# EAGLE library part PCA9685 (library PCA9685)
I2C Bus LED Controller RS No: 727-5649 MRF No: PCA9685PW,112
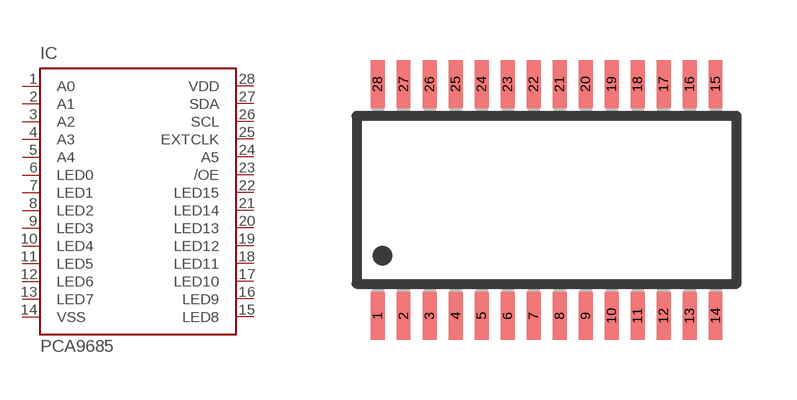
[diagram p0: symbol with the pads of PCA9685; footprint PCA9685]

Designator prefix IC

## PCA9685  [PCA9685]
1  A0  out
2  A1  out
3  A2  out
4  A3  out
5  A4  out
6  LED0  out
7  LED1  out
8  LED2  in
9  LED3  in
10  LED4  out
11  LED5  out
12  LED6  pas
13  LED7  pas
14  VSS  pas
15  LED8  out
16  LED9  out
17  LED10  out
18  LED11  out
19  LED12  out
20  LED13  out
21  LED14  out
22  LED15  in
23  /OE  in
24  A5  out
25  EXTCLK  out
26  SCL  pas
27  SDA  pas
28  VDD  pas

## Footprint PCA9685 (pad centres in mm)
smd 0.35 x 1.2: 1 -4.225,-2.9; 2 -3.575,-2.9; 3 -2.925,-2.9; 4 -2.275,-2.9; 5 -1.625,-2.9; 6 -0.975,-2.9; 7 -0.325,-2.9; 8 0.325,-2.9; 9 0.975,-2.9; 10 1.625,-2.9; 11 2.275,-2.9; 12 2.925,-2.9; 13 3.575,-2.9; 14 4.225,-2.9; 15 4.225,2.9; 16 3.575,2.9; 17 2.925,2.9; 18 2.275,2.9; 19 1.625,2.9; 20 0.975,2.9; 21 0.325,2.9; 22 -0.325,2.9; 23 -0.975,2.9; 24 -1.625,2.9; 25 -2.275,2.9; 26 -2.925,2.9; 27 -3.575,2.9; 28 -4.225,2.9